# Altium schematic symbol library resistor-dil.SCHLIB: 37 symbols
Pins are listed as number, name and electrical type; pins without a type are passive.

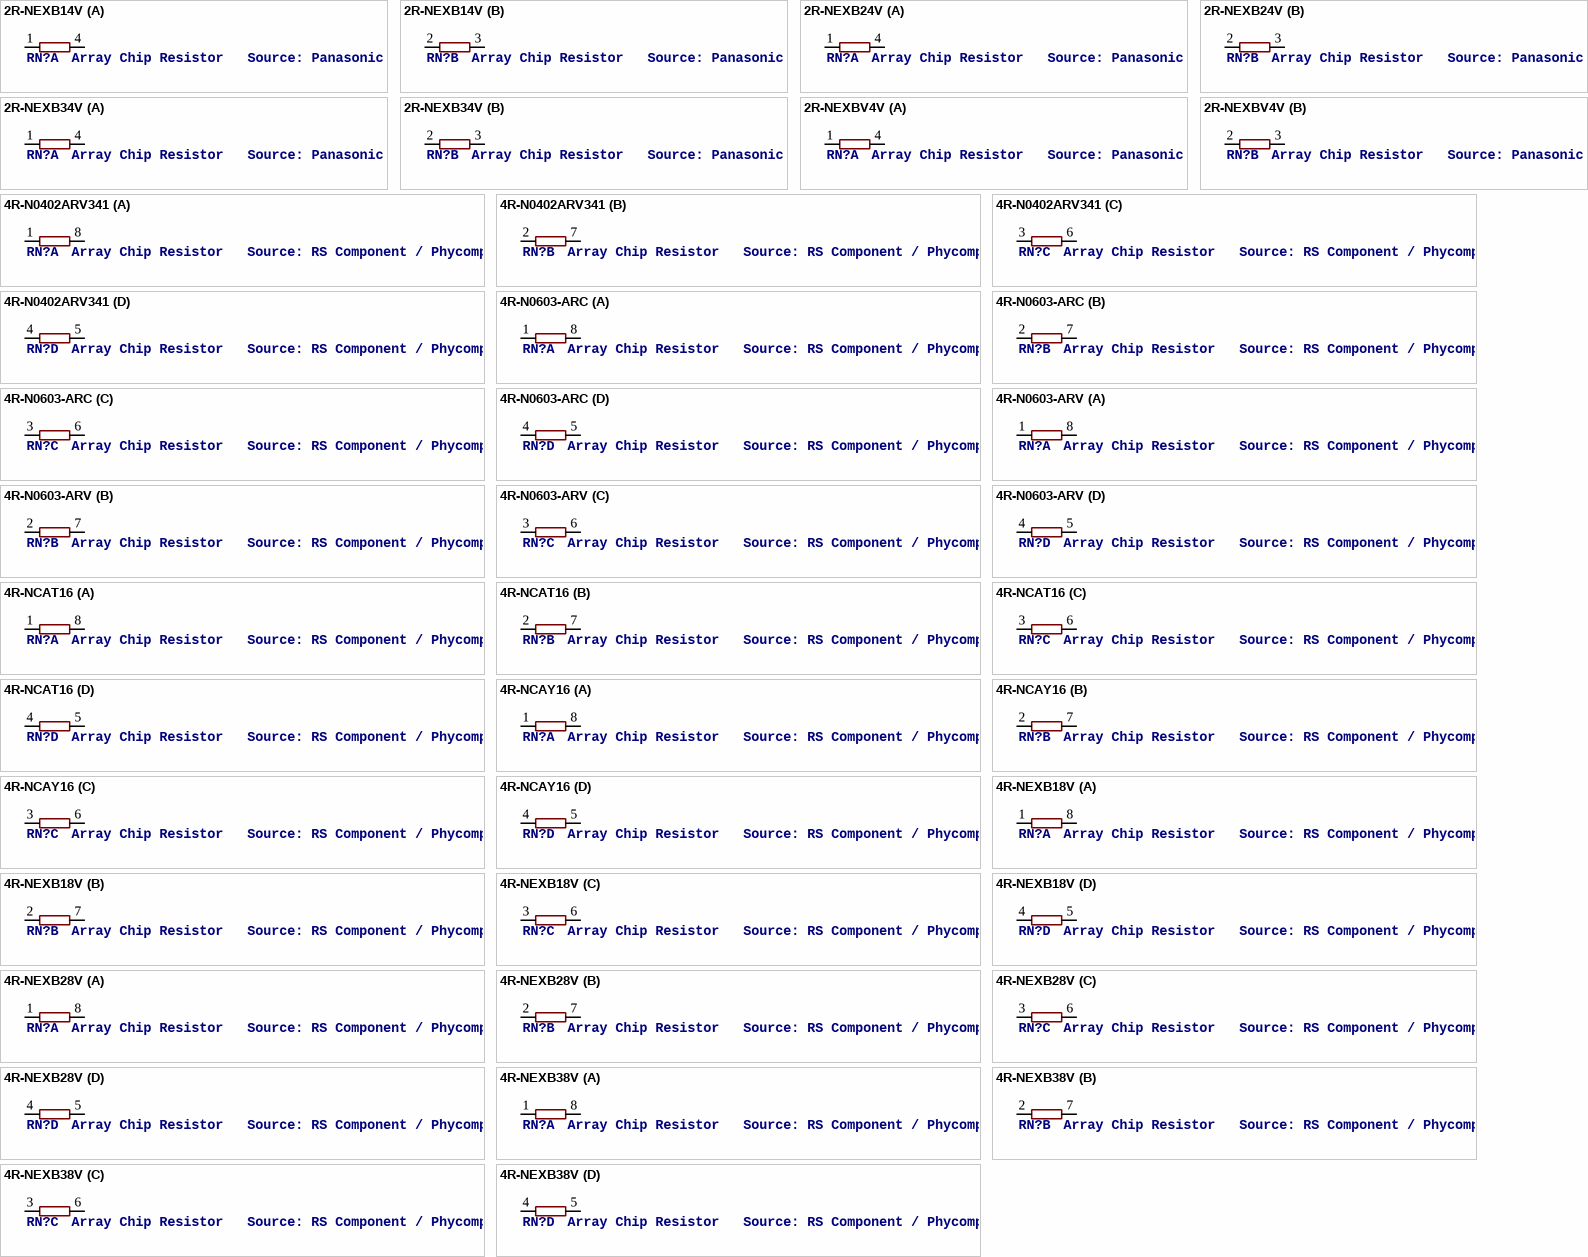
[diagram p0: symbols 2R-NEXB14V to 4R-NEXB38V]

## 2R-NEXB14V
designator RN?, comment Array Chip Resistor   Source: Panasonic
OC_FARNELL: unknown; OC_NEWARK: unknown
footprint EXB14V
part A pins: 1, 4 2
part B pins: 2 1, 3 2

## 2R-NEXB24V
designator RN?, comment Array Chip Resistor   Source: Panasonic
OC_FARNELL: unknown; OC_NEWARK: unknown
footprint EXB24V
part A pins: 1, 4 2
part B pins: 2 1, 3 2

## 2R-NEXB34V
designator RN?, comment Array Chip Resistor   Source: Panasonic
OC_FARNELL: unknown; OC_NEWARK: unknown
footprint EXB34V
part A pins: 1, 4 2
part B pins: 2 1, 3 2

## 2R-NEXBV4V
designator RN?, comment Array Chip Resistor   Source: Panasonic
OC_FARNELL: unknown; OC_NEWARK: unknown
footprint EXBV4V
part A pins: 1, 4 2
part B pins: 2 1, 3 2

## 4R-N0402ARV341
designator RN?, comment Array Chip Resistor   Source: RS Component / Phycomp
OC_FARNELL: unknown; OC_NEWARK: unknown
footprint 4X0402ARV341
part A pins: 1, 8 2
part B pins: 2 1, 7 2
part C pins: 3 1, 6 2
part D pins: 4 1, 5 2

## 4R-N0603-ARC
designator RN?, comment Array Chip Resistor   Source: RS Component / Phycomp
OC_FARNELL: unknown; OC_NEWARK: unknown
footprint 0603-ARC
part A pins: 1, 8 2
part B pins: 2 1, 7 2
part C pins: 3 1, 6 2
part D pins: 4 1, 5 2

## 4R-N0603-ARV
designator RN?, comment Array Chip Resistor   Source: RS Component / Phycomp
OC_FARNELL: unknown; OC_NEWARK: unknown
footprint 0603-ARV
part A pins: 1, 8 2
part B pins: 2 1, 7 2
part C pins: 3 1, 6 2
part D pins: 4 1, 5 2

## 4R-NCAT16
designator RN?, comment Array Chip Resistor   Source: RS Component / Phycomp
OC_FARNELL: unknown; OC_NEWARK: unknown
footprint CAT16
part A pins: 1, 8 2
part B pins: 2 1, 7 2
part C pins: 3 1, 6 2
part D pins: 4 1, 5 2

## 4R-NCAY16
designator RN?, comment Array Chip Resistor   Source: RS Component / Phycomp
OC_FARNELL: unknown; OC_NEWARK: unknown
footprint CAY16
part A pins: 1, 8 2
part B pins: 2 1, 7 2
part C pins: 3 1, 6 2
part D pins: 4 1, 5 2

## 4R-NEXB18V
designator RN?, comment Array Chip Resistor   Source: RS Component / Phycomp
OC_FARNELL: unknown; OC_NEWARK: unknown
footprint EXB18V
part A pins: 1, 8 2
part B pins: 2 1, 7 2
part C pins: 3 1, 6 2
part D pins: 4 1, 5 2

## 4R-NEXB28V
designator RN?, comment Array Chip Resistor   Source: RS Component / Phycomp
OC_FARNELL: unknown; OC_NEWARK: unknown
footprint EXB28V
part A pins: 1, 8 2
part B pins: 2 1, 7 2
part C pins: 3 1, 6 2
part D pins: 4 1, 5 2

## 4R-NEXB38V
designator RN?, comment Array Chip Resistor   Source: RS Component / Phycomp
OC_FARNELL: unknown; OC_NEWARK: unknown
footprint EXB38V
part A pins: 1, 8 2
part B pins: 2 1, 7 2
part C pins: 3 1, 6 2
part D pins: 4 1, 5 2

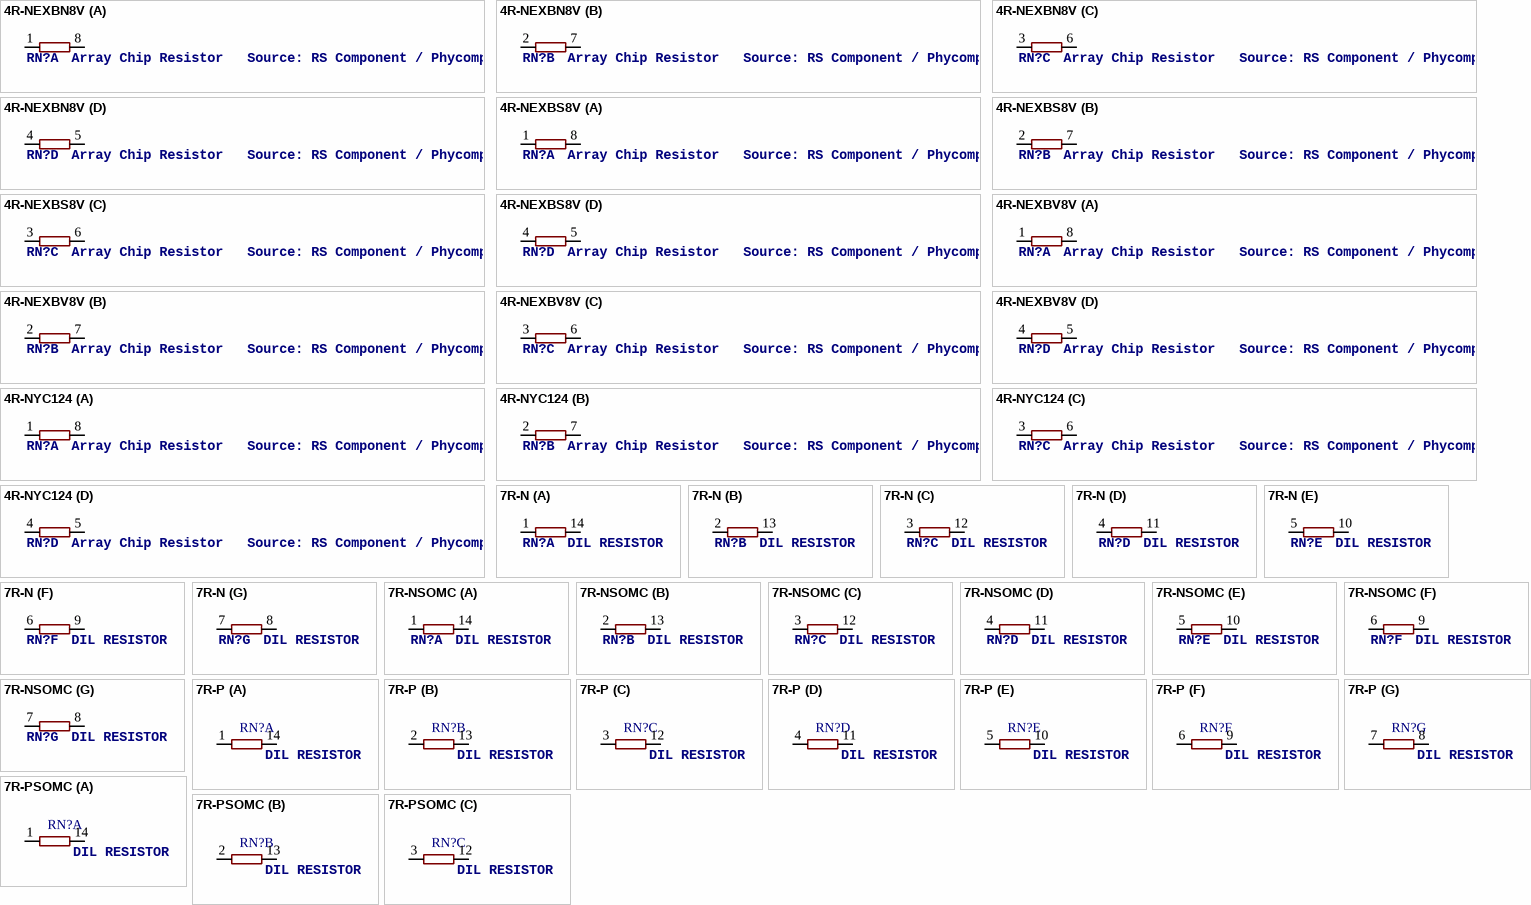
[diagram p1: symbols 4R-NEXBN8V to 7R-PSOMC]

## 4R-NEXBN8V
designator RN?, comment Array Chip Resistor   Source: RS Component / Phycomp
OC_FARNELL: unknown; OC_NEWARK: unknown
footprint EXBN8V
part A pins: 1, 8 2
part B pins: 2 1, 7 2
part C pins: 3 1, 6 2
part D pins: 4 1, 5 2

## 4R-NEXBS8V
designator RN?, comment Array Chip Resistor   Source: RS Component / Phycomp
OC_FARNELL: unknown; OC_NEWARK: unknown
footprint EXBS8V
part A pins: 1, 8 2
part B pins: 2 1, 7 2
part C pins: 3 1, 6 2
part D pins: 4 1, 5 2

## 4R-NEXBV8V
designator RN?, comment Array Chip Resistor   Source: RS Component / Phycomp
OC_FARNELL: unknown; OC_NEWARK: unknown
footprint EXBV8V
part A pins: 1, 8 2
part B pins: 2 1, 7 2
part C pins: 3 1, 6 2
part D pins: 4 1, 5 2

## 4R-NYC124
designator RN?, comment Array Chip Resistor   Source: RS Component / Phycomp
OC_FARNELL: unknown; OC_NEWARK: unknown
footprint YC124
part A pins: 1, 8 2
part B pins: 2 1, 7 2
part C pins: 3 1, 6 2
part D pins: 4 1, 5 2

## 7R-N
designator RN?, comment DIL RESISTOR
OC_FARNELL: unknown; OC_NEWARK: unknown
footprint DIL14
part A pins: 1, 14 2
part B pins: 2 1, 13 2
part C pins: 3 1, 12 2
part D pins: 4 1, 11 2
part E pins: 5 1, 10 2
part F pins: 6 1, 9 2
part G pins: 7 1, 8 2

## 7R-NSOMC
designator RN?, comment DIL RESISTOR
OC_FARNELL: unknown; OC_NEWARK: unknown
footprint SOMC14
part A pins: 1, 14 2
part B pins: 2 1, 13 2
part C pins: 3 1, 12 2
part D pins: 4 1, 11 2
part E pins: 5 1, 10 2
part F pins: 6 1, 9 2
part G pins: 7 1, 8 2

## 7R-P
designator RN?, comment DIL RESISTOR
OC_FARNELL: unknown; OC_NEWARK: unknown
footprint DIL14
part A pins: 1, 14 2
part B pins: 2 1, 13 2
part C pins: 3 1, 12 2
part D pins: 4 1, 11 2
part E pins: 5 1, 10 2
part F pins: 6 1, 9 2
part G pins: 7 1, 8 2

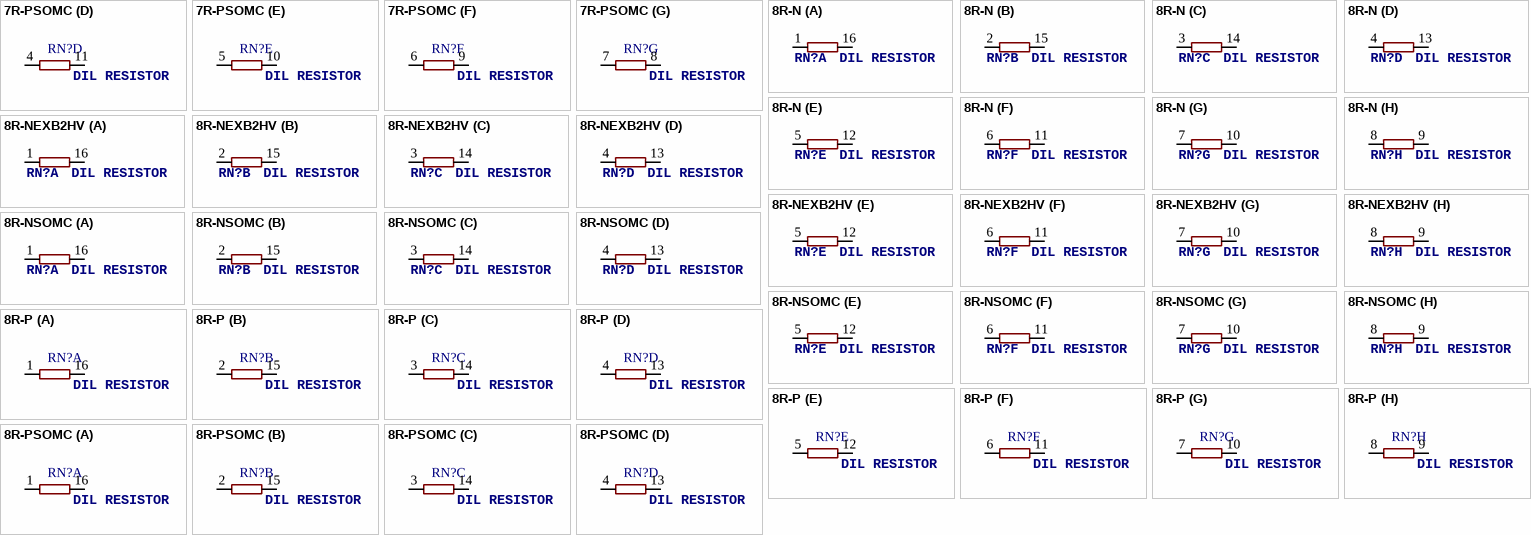
[diagram p2: symbols 7R-PSOMC to 8R-PSOMC]

## 7R-PSOMC
designator RN?, comment DIL RESISTOR
OC_FARNELL: unknown; OC_NEWARK: unknown
footprint SOMC14
part A pins: 1, 14 2
part B pins: 2 1, 13 2
part C pins: 3 1, 12 2
part D pins: 4 1, 11 2
part E pins: 5 1, 10 2
part F pins: 6 1, 9 2
part G pins: 7 1, 8 2

## 8R-N
designator RN?, comment DIL RESISTOR
OC_FARNELL: unknown; OC_NEWARK: unknown
footprint DIL16
part A pins: 1, 16 2
part B pins: 2 1, 15 2
part C pins: 3 1, 14 2
part D pins: 4 1, 13 2
part E pins: 5 1, 12 2
part F pins: 6 1, 11 2
part G pins: 7 1, 10 2
part H pins: 8 1, 9 2

## 8R-NEXB2HV
designator RN?, comment DIL RESISTOR
OC_FARNELL: unknown; OC_NEWARK: unknown
footprint EXB2HV
part A pins: 1, 16 2
part B pins: 2 1, 15 2
part C pins: 3 1, 14 2
part D pins: 4 1, 13 2
part E pins: 5 1, 12 2
part F pins: 6 1, 11 2
part G pins: 7 1, 10 2
part H pins: 8 1, 9 2

## 8R-NSOMC
designator RN?, comment DIL RESISTOR
OC_FARNELL: unknown; OC_NEWARK: unknown
footprint SOMC16
part A pins: 1, 16 2
part B pins: 2 1, 15 2
part C pins: 3 1, 14 2
part D pins: 4 1, 13 2
part E pins: 5 1, 12 2
part F pins: 6 1, 11 2
part G pins: 7 1, 10 2
part H pins: 8 1, 9 2

## 8R-P
designator RN?, comment DIL RESISTOR
OC_FARNELL: unknown; OC_NEWARK: unknown
footprint DIL16
part A pins: 1, 16 2
part B pins: 2 1, 15 2
part C pins: 3 1, 14 2
part D pins: 4 1, 13 2
part E pins: 5 1, 12 2
part F pins: 6 1, 11 2
part G pins: 7 1, 10 2
part H pins: 8 1, 9 2

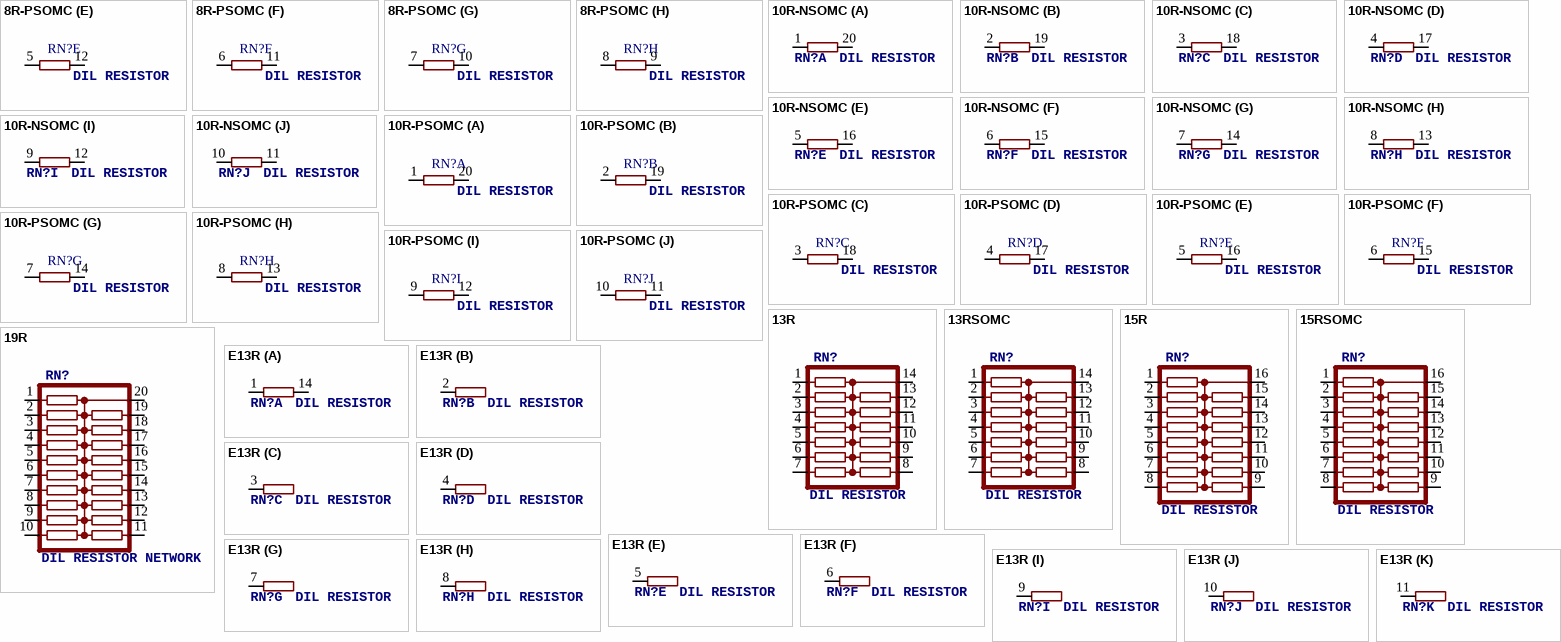
[diagram p3: symbols 8R-PSOMC to E13R]

## 8R-PSOMC
designator RN?, comment DIL RESISTOR
OC_FARNELL: unknown; OC_NEWARK: unknown
footprint SOMC16
part A pins: 1, 16 2
part B pins: 2 1, 15 2
part C pins: 3 1, 14 2
part D pins: 4 1, 13 2
part E pins: 5 1, 12 2
part F pins: 6 1, 11 2
part G pins: 7 1, 10 2
part H pins: 8 1, 9 2

## 10R-NSOMC
designator RN?, comment DIL RESISTOR
OC_FARNELL: unknown; OC_NEWARK: unknown
footprint SOMC20
part A pins: 1, 20 2
part B pins: 2 1, 19 2
part C pins: 3 1, 18 2
part D pins: 4 1, 17 2
part E pins: 5 1, 16 2
part F pins: 6 1, 15 2
part G pins: 7 1, 14 2
part H pins: 8 1, 13 2
part I pins: 9 1, 12 2
part J pins: 10 1, 11 2

## 10R-PSOMC
designator RN?, comment DIL RESISTOR
MPN: SOMC200310R0GEJ; OC_FARNELL: unknown; OC_NEWARK: 66P0984
footprint SOMC20
part A pins: 1, 20 2
part B pins: 2 1, 19 2
part C pins: 3 1, 18 2
part D pins: 4 1, 17 2
part E pins: 5 1, 16 2
part F pins: 6 1, 15 2
part G pins: 7 1, 14 2
part H pins: 8 1, 13 2
part I pins: 9 1, 12 2
part J pins: 10 1, 11 2

## 13R
designator RN?, comment DIL RESISTOR
OC_FARNELL: unknown; OC_NEWARK: unknown
footprint DIL14
pins: 1, 2, 3, 4, 5, 6, 7, 8, 9, 10, 11, 12, 13, 14

## 13RSOMC
designator RN?, comment DIL RESISTOR
MPN: SOMC140313R0GEJ; OC_FARNELL: unknown; OC_NEWARK: 48P4478
footprint SOMC14
pins: 1, 2, 3, 4, 5, 6, 7, 8, 9, 10, 11, 12, 13, 14

## 15R
designator RN?, comment DIL RESISTOR
OC_FARNELL: unknown; OC_NEWARK: unknown
footprint DIL16
pins: 1, 2, 3, 4, 5, 6, 7, 8, 9, 10, 11, 12, 13, 14, 15, 16

## 15RSOMC
designator RN?, comment DIL RESISTOR
MPN: SOMC160115R0GDC; OC_FARNELL: unknown; OC_NEWARK: 48P4651
footprint SOMC16
pins: 1, 2, 3, 4, 5, 6, 7, 8, 9, 10, 11, 12, 13, 14, 15, 16

## 19R
designator RN?, comment DIL RESISTOR NETWORK
OC_FARNELL: unknown; OC_NEWARK: unknown
footprint SOMC20
pins: 1, 2, 3, 4, 5, 6, 7, 8, 9, 10, 11, 12, 13, 14, 15, 16, 17, 18, 19, 20

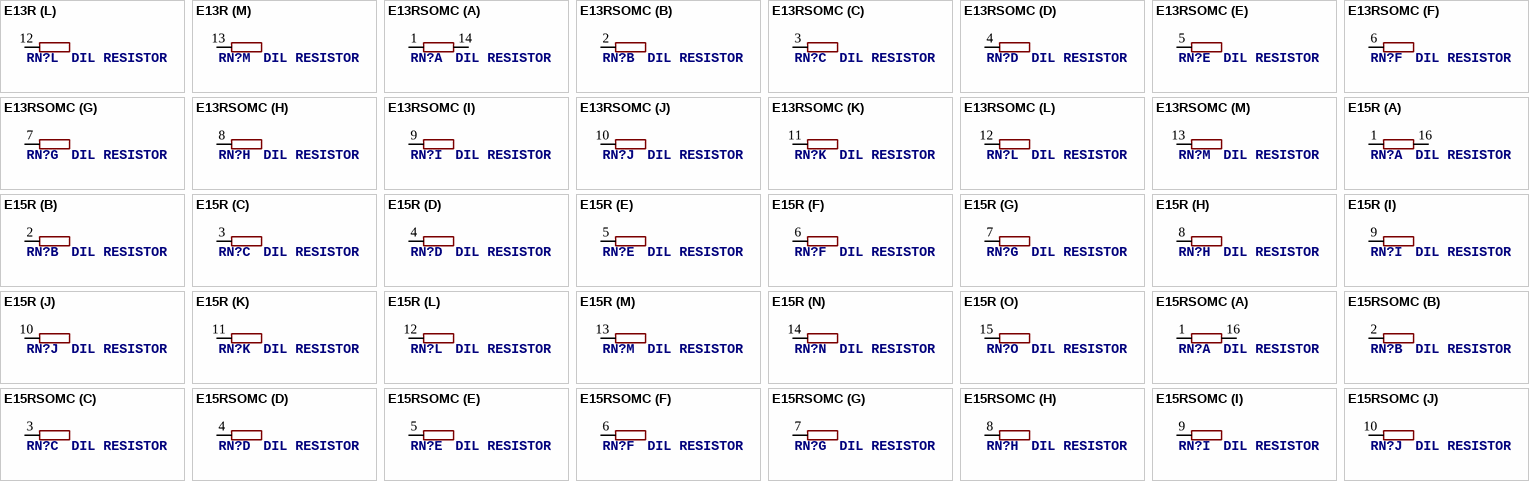
[diagram p4: symbols E13R to E15RSOMC]

## E13R
designator RN?, comment DIL RESISTOR
OC_FARNELL: unknown; OC_NEWARK: unknown
footprint DIL14
part A pins: 1, 14 2
part B pins: 2 1
part C pins: 3 1
part D pins: 4 1
part E pins: 5 1
part F pins: 6 1
part G pins: 7 1
part H pins: 8 1
part I pins: 9 1
part J pins: 10 1
part K pins: 11 1
part L pins: 12 1
part M pins: 13 1

## E13RSOMC
designator RN?, comment DIL RESISTOR
MPN: SOMC140313R0GEJ; OC_FARNELL: unknown; OC_NEWARK: 48P4478
footprint SOMC14
part A pins: 1, 14 2
part B pins: 2 1
part C pins: 3 1
part D pins: 4 1
part E pins: 5 1
part F pins: 6 1
part G pins: 7 1
part H pins: 8 1
part I pins: 9 1
part J pins: 10 1
part K pins: 11 1
part L pins: 12 1
part M pins: 13 1

## E15R
designator RN?, comment DIL RESISTOR
OC_FARNELL: unknown; OC_NEWARK: unknown
footprint DIL16
part A pins: 1, 16 2
part B pins: 2 1
part C pins: 3 1
part D pins: 4 1
part E pins: 5 1
part F pins: 6 1
part G pins: 7 1
part H pins: 8 1
part I pins: 9 1
part J pins: 10 1
part K pins: 11 1
part L pins: 12 1
part M pins: 13 1
part N pins: 14 1
part O pins: 15 1

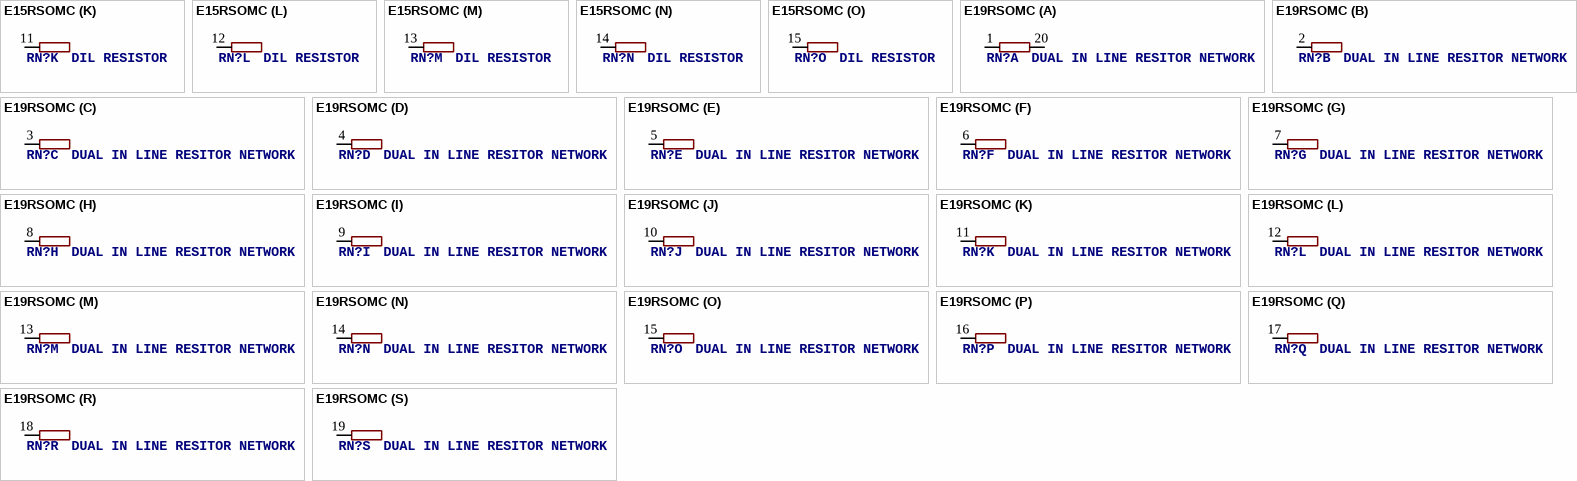
[diagram p5: symbols E15RSOMC to E19RSOMC]

## E15RSOMC
designator RN?, comment DIL RESISTOR
MPN: SOMC160115R0GDC; OC_FARNELL: unknown; OC_NEWARK: 48P4651
footprint SOMC16
part A pins: 1, 16 2
part B pins: 2 1
part C pins: 3 1
part D pins: 4 1
part E pins: 5 1
part F pins: 6 1
part G pins: 7 1
part H pins: 8 1
part I pins: 9 1
part J pins: 10 1
part K pins: 11 1
part L pins: 12 1
part M pins: 13 1
part N pins: 14 1
part O pins: 15 1

## E19RSOMC
designator RN?, comment DUAL IN LINE RESITOR NETWORK
OC_FARNELL: unknown; OC_NEWARK: unknown
footprint SOMC20
part A pins: 1, 20 2
part B pins: 2 1
part C pins: 3 1
part D pins: 4 1
part E pins: 5 1
part F pins: 6 1
part G pins: 7 1
part H pins: 8 1
part I pins: 9 1
part J pins: 10 1
part K pins: 11 1
part L pins: 12 1
part M pins: 13 1
part N pins: 14 1
part O pins: 15 1
part P pins: 16 1
part Q pins: 17 1
part R pins: 18 1
part S pins: 19 1